# Altium footprint library esp32s3.PcbLib: 1 footprints
Each footprint in its own frame and in the unit in brackets; x right, y up, seen from the top. Pads: shape width x height; smd on the part's side, far side on the other; paste and mask are expansions set on the pad; w line width, h text height; cw(c..) or ccw(c..) is an arc to the next point about the centre after c.
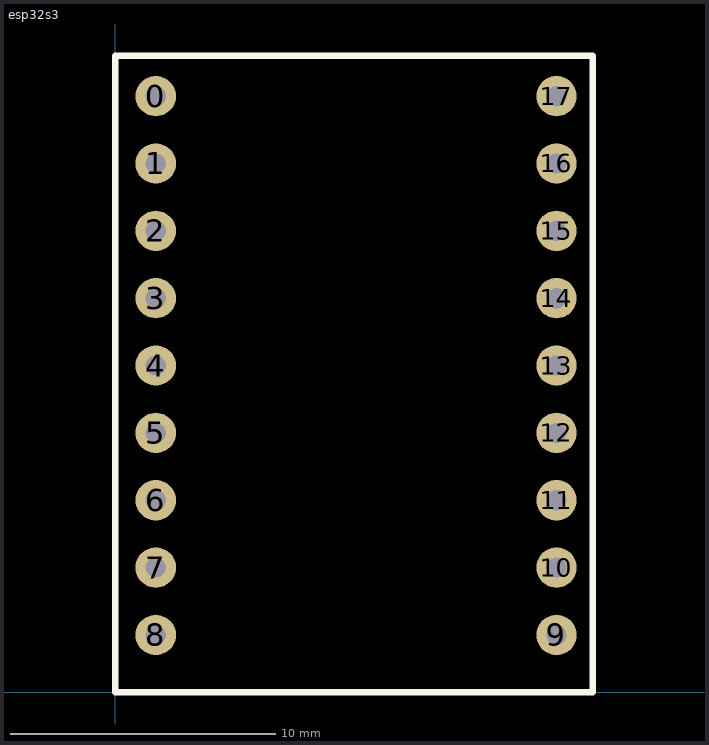
[diagram p0: the footprint, top view; thin cyan lines are the x and y axes]

## esp32s3 [mil]
pads (18):
  round 60 hole 30: 0(60,885) 1(60,785) 2(60,685) 3(60,585) 4(60,485) 5(60,385) 6(60,285) 7(60,185) 8(60,85) 9(655,85) 10(655,185) 11(655,285) 12(655,385) 13(655,485) 14(655,585) 15(655,685) 16(655,785) 17(655,885)
Top Overlay:
  lines w10: 0,0 0,944.88 708.66,944.88 708.66,0 0,0